# Altium schematic symbol library Schlib_capacitor_1206.SchLib: 1 symbol
Pins are listed as number, name and electrical type; pins without a type are passive.

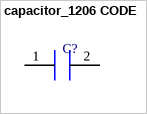
[diagram p0: symbol capacitor_1206 CODE]

## capacitor_1206 CODE
designator C?
100V 100nF C0G ±5% 1206 Multilayer Ceramic Capacitors MLCC - SMD/SMT ROHS; manufactor: Murata Electronics; manufactor part number: GRM31C5C2A104JA01L; ComponentLink1Description: snapeda link; ComponentLink1URL: https://www.snapeda.com/parts/GRM31C5C2A104JA01L/Murata/view-part/?ref=search&t=1206%20cap%20smd; ComponentLink2Description: Datasheet; ComponentLink2URL: https://www.snapeda.com/parts/GRM31C5C2A104JA01L/Murata/datasheet/; supplier: LCSC; supplier part number: C405303
footprint PCBComponent_1
pins: 1, 2